# EAGLE library part PCA9509 (library nxp_60)
The PCA9509 is a level translating I2C-bus/SMBus repeater with two voltage supplies that enables processor low voltage 2-wire serial bus to interface with standard I2C-bus or SMBus I/O. AAL Eindhoven MK
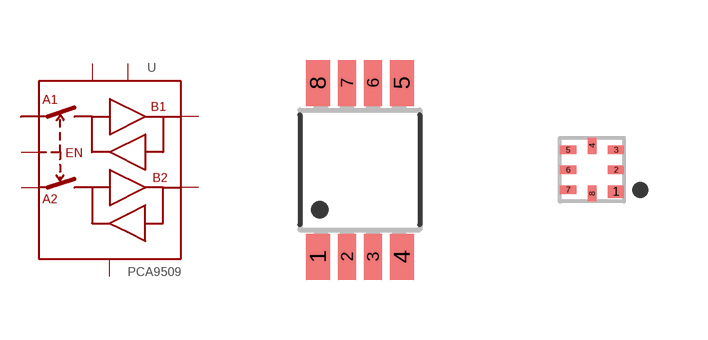
[diagram p65: symbol with the pads of SOT505-1; footprints SOT505-1, SOT902]

Designator prefix U

## PCA9509DP  [SOT505-1]
1  VCC(A)  pwr
2  A1
3  A2
4  GND  pwr
5  EN  in
6  B2
7  B1
8  VCC(B)  pwr

## PCA9509GM  [SOT902]
Pads as for SOT505-1

## PCA9509D  [SOT96-1]
Pads as for SOT505-1

## Footprint SOT505-1 (pad centres in mm)
SOT505-1 TSSOP8: plastic thin shrink small outline package; 8 leads; body width 3 mm JEDEC: -- IEC: --
smd 0.6 x 1.15: 1 -1.05,-2.175; 4 1.05,-2.175; 5 1.05,2.175; 8 -1.05,2.175
smd 0.45 x 1.15: 2 -0.325,-2.175; 3 0.325,-2.175; 6 0.325,2.175; 7 -0.325,2.175

## Footprint SOT902 (pad centres in mm)
SOT902 XQFN8U: plastic extremely thin quad flat package; no leads; 8 terminals; UTLP based; body 1.6 x 1.6 x 0.5 mm JEDEC: -- IEC: ---
smd 0.4 x 0.32: 1 0.6,-0.55
smd 0.4 x 0.22: 2 0.6,0; 3 0.6,0.5; 5 -0.6,0.5; 6 -0.6,0; 7 -0.6,-0.5
smd 0.22 x 0.4: 4 0,0.6; 8 0,-0.6

## Footprint SOT96-1 (pad centres in mm)
SOT96-1 SO8: plastic small outline package; 8 leads; body width 3.9 mm JEDEC: MS-012 IEC: 076E03
smd 0.6 x 1.3: 1 -1.905,-2.65; 2 -0.635,-2.65; 3 0.635,-2.65; 4 1.905,-2.65; 5 1.905,2.65; 6 0.635,2.65; 7 -0.635,2.65; 8 -1.905,2.65